# EAGLE library part OV2640-MOD (library satcam)
PIN HEADER
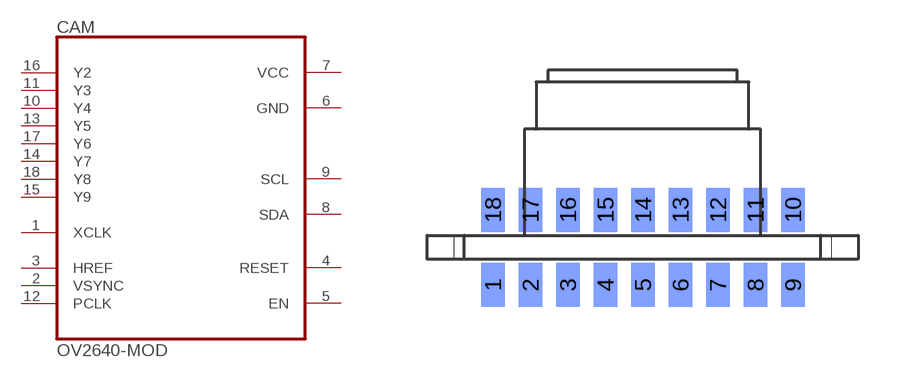
[diagram p1: symbol with the pads of OV2640-MOD; footprint OV2640-MOD]

Designator prefix CAM

## OV2640-MOD  [OV2640-MOD]
1  XCLK  in
2  VSYNC  out
3  HREF  out
4  RESET  in
5  EN  in
6  GND  pwr
7  VCC  pwr
8  SDA
9  SCL
10  Y4  out
11  Y3  out
12  PCLK  out
13  Y5  out
14  Y7  out
15  Y9  out
16  Y2  out
17  Y6  out
18  Y8  out

## Footprint OV2640-MOD (pad centres in mm)
PIN HEADER
smd 0.8 x 1.5 bottom: 1 -5.08,-1.27; 2 -3.81,-1.27; 3 -2.54,-1.27; 4 -1.27,-1.27; 5 0,-1.27; 6 1.27,-1.27; 7 2.54,-1.27; 8 3.81,-1.27; 9 5.08,-1.27; 10 5.08,1.27; 11 3.81,1.27; 12 2.54,1.27; 13 1.27,1.27; 14 0,1.27; 15 -1.27,1.27; 16 -2.54,1.27; 17 -3.81,1.27; 18 -5.08,1.27